# EAGLE library part SWITCH_04 (library diode-20CJQ030)
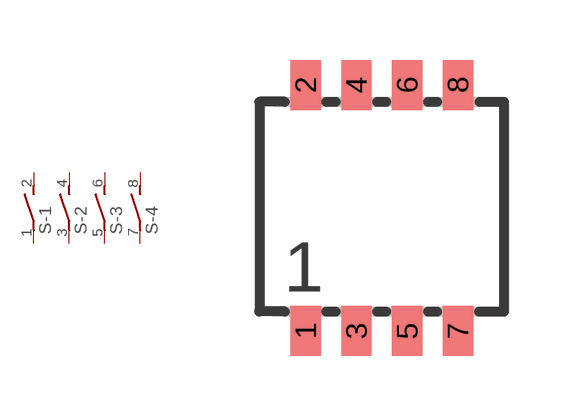
[diagram p30: symbol with the pads of SWITCH_04; footprint SWITCH_04]

Designator prefix S; gates -1=SWITCH_1 -2=SWITCH_1 -3=SWITCH_1 -4=SWITCH_1

## SWITCH_04  [SWITCH_04]
1  -1:1  pas
2  -1:2  pas
3  -2:1  pas
4  -2:2  pas
5  -3:1  pas
6  -3:2  pas
7  -4:1  pas
8  -4:2  pas

## Footprint SWITCH_04 (pad centres in mm)
www.e-switch.com (distributed by www.utech.ca) KAN series 1.27mm pitch (aka half pitch) SMT dip switches in 2,4,6,8,10 position packages
smd 0.76 x 1.25: 1 -1.9,-3.12; 2 -1.9,3.04; 3 -0.63,-3.12; 4 -0.63,3.04; 5 0.64,-3.12; 6 0.64,3.04; 7 1.91,-3.12; 8 1.91,3.04